# Altium schematic symbol library usbc_pd_cc_control.SchLib: 3 symbols
Pins are listed as number, name and electrical type; pins without a type are passive.

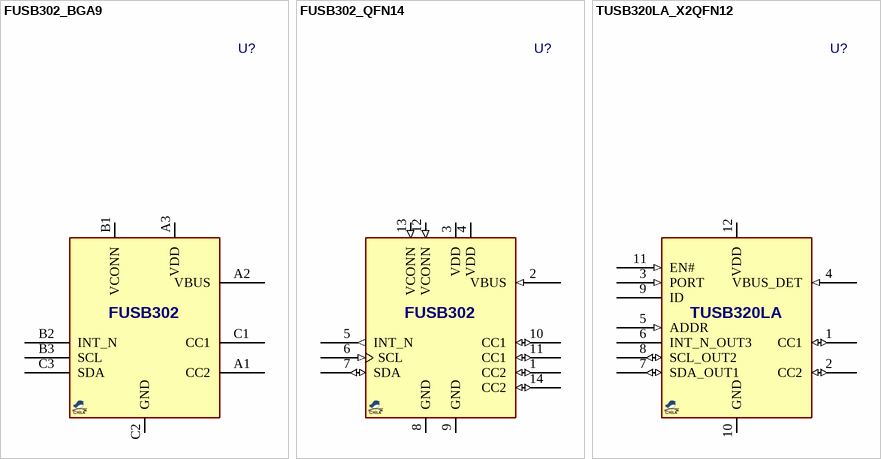
[diagram p0: symbols FUSB302_BGA9 to TUSB320LA_X2QFN12]

## FUSB302_BGA9
designator U?, comment FUSB302  (value not drawn)
USB-C PD controller; MANF: ONsemi; DESC: DESCRIPTION; MANF_P#: FUSB302BUCX; PARAM2: 3~5.5v; MANF: MANF; ASSEMBLY: ASSEMBLY; PRICE: 0.4$; VALUE: FUSB302; PACKAGE: BGA-9
footprint BGA40_9_1212 (WLCSP9, 9-Leads, Body 1.26x1.215x0.50mm, Pitch 0.40mm)
pins: A1 CC2, A2 VBUS, A3 VDD, B1 VCONN, B2 INT_N, B3 SCL, C1 CC1, C2 GND, C3 SDA

## FUSB302_QFN14
designator U?, comment FUSB302  (value not drawn)
USB-C PD controller; MANF: ONsemi; DESC: DESCRIPTION; MANF_P#: FUSB302MPX; PARAM2: 3~5.5v; MANF: MANF; ASSEMBLY: ASSEMBLY; PRICE: 0.4$; VALUE: FUSB302; PACKAGE: QFN-14
footprint QFN50_14T_2525 (WQFN-14, 0.5mm pitch, 2.5x2.5mm)
pins: 1 CC2 (io), 2 VBUS (in), 3 VDD (power), 4 VDD (power), 5 INT_N (out), 6 SCL (in), 7 SDA (io), 8 GND (power), 9 GND (power), 10 CC1 (io), 11 CC1 (io), 12 VCONN (in), 13 VCONN (in), 14 CC2 (io)

## TUSB320LA_X2QFN12
designator U?, comment TUSB320LA  (value not drawn)
USB-C PD controller; MANF: Texas Instruments; DESC: DESCRIPTION; MANF_P#: TUSB320LAIRWB; PARAM2: 3~5.5v; MANF: MANF; ASSEMBLY: ASSEMBLY; PRICE: 0.7$; VALUE: TUSB320LA; PACKAGE: X2QFN-12
footprint QFN40_12_1616 (X2QFN-12, RWB, 1.6x1.6x0.4mm, 0.4mm pitch)
pins: 1 CC1 (io), 2 CC2 (io), 3 PORT (in), 4 VBUS_DET (in), 5 ADDR (in), 6 INT_N_OUT3 (oc), 7 SDA_OUT1 (io), 8 SCL_OUT2 (io), 9 ID (oc), 10 GND (power), 11 EN# (in), 12 VDD (power)